# Altium footprint library 针式LED.PcbLib: 8 footprints
Each footprint in its own frame and in the unit in brackets; x right, y up, seen from the top. Pads: shape width x height; smd on the part's side, far side on the other; paste and mask are expansions set on the pad; w line width, h text height; cw(c..) or ccw(c..) is an arc to the next point about the centre after c.
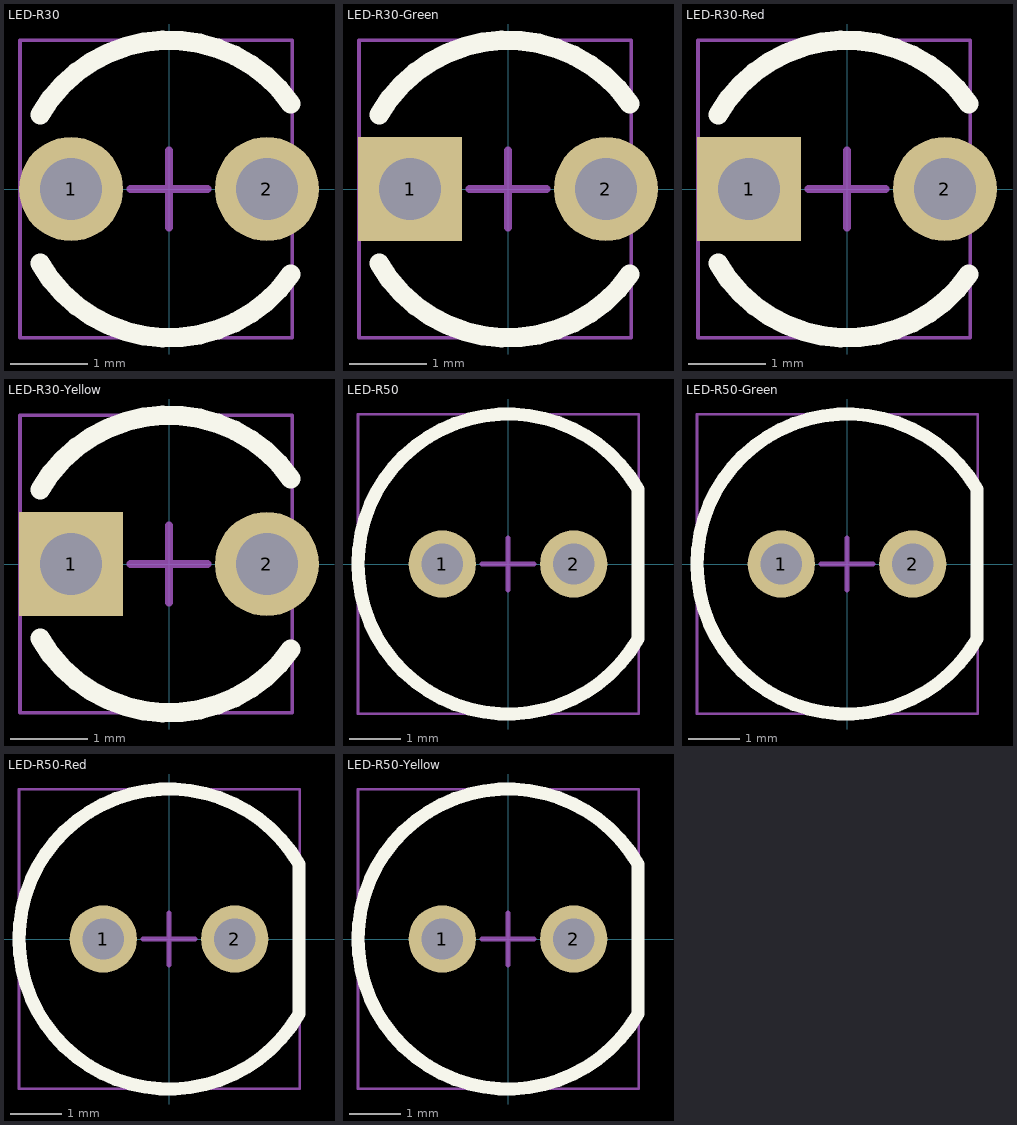
[diagram p0: the footprints below, top view; thin cyan lines are the x and y axes]

## LED-R30 [mm] "3mm直径发光二极管"
height 5
pads (2):
  round 1.35 hole 0.8: 1(-1.27,0) 2(1.27,0)
Top Overlay:
  lines w0.254: -1.671,-0.965 ccw(c0,0) 1.581,-1.107 ; -1.671,0.965 cw(c0,0) 1.581,1.107
Mechanical 13:
  lines w0.05: -1.93,-1.928 -1.93,1.928 1.598,1.928 1.598,-1.928 -1.93,-1.928
Mechanical 15:
  lines w0.1: -0.5,0 0.5,0 ; 0,-0.5 0,0.5
3D body: height 5.4, standoff -3.44, extent -1.93,-1.928 1.598,1.928

## LED-R30-Green [mm] "3mm直径发光二极管"
height 5
pads (2):
  rect 1.35x1.35 hole 0.8: 1(-1.27,0)
  round 1.35 hole 0.8: 2(1.27,0)
Top Overlay:
  lines w0.254: -1.671,-0.965 ccw(c0,0) 1.581,-1.107 ; -1.671,0.965 cw(c0,0) 1.581,1.107
Mechanical 13:
  lines w0.05: -1.93,-1.928 -1.93,1.928 1.598,1.928 1.598,-1.928 -1.93,-1.928
Mechanical 15:
  lines w0.1: -0.5,0 0.5,0 ; 0,-0.5 0,0.5
3D body: height 5.4, standoff -3.44, extent -1.93,-1.928 1.598,1.928

## LED-R30-Red [mm] "3mm直径发光二极管"
height 5
pads (2):
  rect 1.35x1.35 hole 0.8: 1(-1.27,0)
  round 1.35 hole 0.8: 2(1.27,0)
Top Overlay:
  lines w0.254: -1.671,-0.965 ccw(c0,0) 1.581,-1.107 ; -1.671,0.965 cw(c0,0) 1.581,1.107
Mechanical 13:
  lines w0.05: -1.93,-1.928 1.598,-1.928 1.598,1.928 -1.93,1.928 -1.93,-1.928
Mechanical 15:
  lines w0.1: -0.5,0 0.5,0 ; 0,-0.5 0,0.5
3D body: height 5.4, standoff -3.44, extent -1.93,-1.928 1.598,1.928

## LED-R30-Yellow [mm] "3mm直径发光二极管"
height 5
pads (2):
  rect 1.35x1.35 hole 0.8: 1(-1.27,0)
  round 1.35 hole 0.8: 2(1.27,0)
Top Overlay:
  lines w0.254: -1.671,-0.965 ccw(c0,0) 1.581,-1.107 ; -1.671,0.965 cw(c0,0) 1.581,1.107
Mechanical 13:
  lines w0.05: -1.93,-1.928 -1.93,1.928 1.598,1.928 1.598,-1.928 -1.93,-1.928
Mechanical 15:
  lines w0.1: -0.5,0 0.5,0 ; 0,-0.5 0,0.5
3D body: height 5.4, standoff -3.44, extent -1.93,-1.928 1.598,1.928

## LED-R50 [mm] "5mm圆形发光LED封装"
height 5
pads (2):
  round 1.3 hole 0.8: 1(-1.27,0) 2(1.27,0)
Top Overlay:
  lines w0.254: 2.511,-1.45 cw(c0,0) 2.511,1.45 2.511,-1.45
Mechanical 13:
  lines w0.05: -2.9,2.894 -2.9,-2.894 2.531,-2.894 2.531,2.896 -2.896,2.896
Mechanical 15:
  lines w0.1: -0.5,0 0.5,0 ; 0,-0.5 0,0.5
3D body: height 8.8, standoff -3.44, extent -2.896,-2.891 2.531,2.896

## LED-R50-Green [mm] "5mm圆形发光LED封装"
height 5
pads (2):
  round 1.3 hole 0.8: 1(-1.27,0) 2(1.27,0)
Top Overlay:
  lines w0.254: 2.511,-1.45 cw(c0,0) 2.511,1.45 2.511,-1.45
Mechanical 13:
  lines w0.05: -2.9,2.894 -2.9,-2.894 2.531,-2.894 2.531,2.896 -2.896,2.896
Mechanical 15:
  lines w0.1: -0.5,0 0.5,0 ; 0,-0.5 0,0.5
3D body: height 8.8, standoff -3.44, extent -2.896,-2.891 2.531,2.896

## LED-R50-Red [mm] "5mm圆形发光LED封装"
height 5
pads (2):
  round 1.3 hole 0.8: 1(-1.27,0) 2(1.27,0)
Top Overlay:
  lines w0.254: 2.511,-1.45 cw(c0,0) 2.511,1.45 2.511,-1.45
Mechanical 13:
  lines w0.05: -2.9,2.894 -2.9,-2.894 2.531,-2.894 2.531,2.896 -2.896,2.896
Mechanical 15:
  lines w0.1: -0.5,0 0.5,0 ; 0,-0.5 0,0.5
3D body: height 8.8, standoff -3.44, extent -2.896,-2.891 2.531,2.896

## LED-R50-Yellow [mm] "5mm圆形发光LED封装"
height 5
pads (2):
  round 1.3 hole 0.8: 1(-1.27,0) 2(1.27,0)
Top Overlay:
  lines w0.254: 2.511,-1.45 cw(c0,0) 2.511,1.45 2.511,-1.45
Mechanical 13:
  lines w0.05: -2.9,2.894 -2.9,-2.894 2.531,-2.894 2.531,2.896 -2.896,2.896
Mechanical 15:
  lines w0.1: -0.5,0 0.5,0 ; 0,-0.5 0,0.5
3D body: height 8.8, standoff -3.44, extent -2.896,-2.891 2.531,2.896